# EAGLE library part USBA-2P (library ublox)
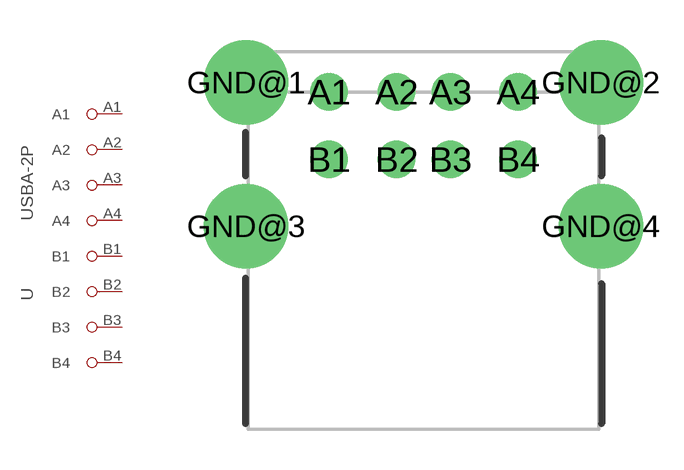
[diagram p6: symbol with the pads of USBA-2P; footprint USBA-2P]

Designator prefix -

## USBA-2P  [USBA-2P]
A1  A1
A2  A2
A3  A3
A4  A4
B1  B1
B2  B2
B3  B3
B4  B4

## Footprint USBA-2P (pad centres in mm)
drill 0.889 round: A1 -3.5,12.5; A2 -1,12.5; A3 1,12.5; A4 3.5,12.5; B1 -3.5,10; B2 -1,10; B3 1,10; B4 3.5,10
drill 2.108 round: GND@1 -6.57,12.85; GND@2 6.57,12.85; GND@3 -6.57,7.52; GND@4 6.57,7.52